# Altium schematic symbol library RPSLib_Memory.SchLib: 14 symbols
Pins are listed as number, name and electrical type; pins without a type are passive.

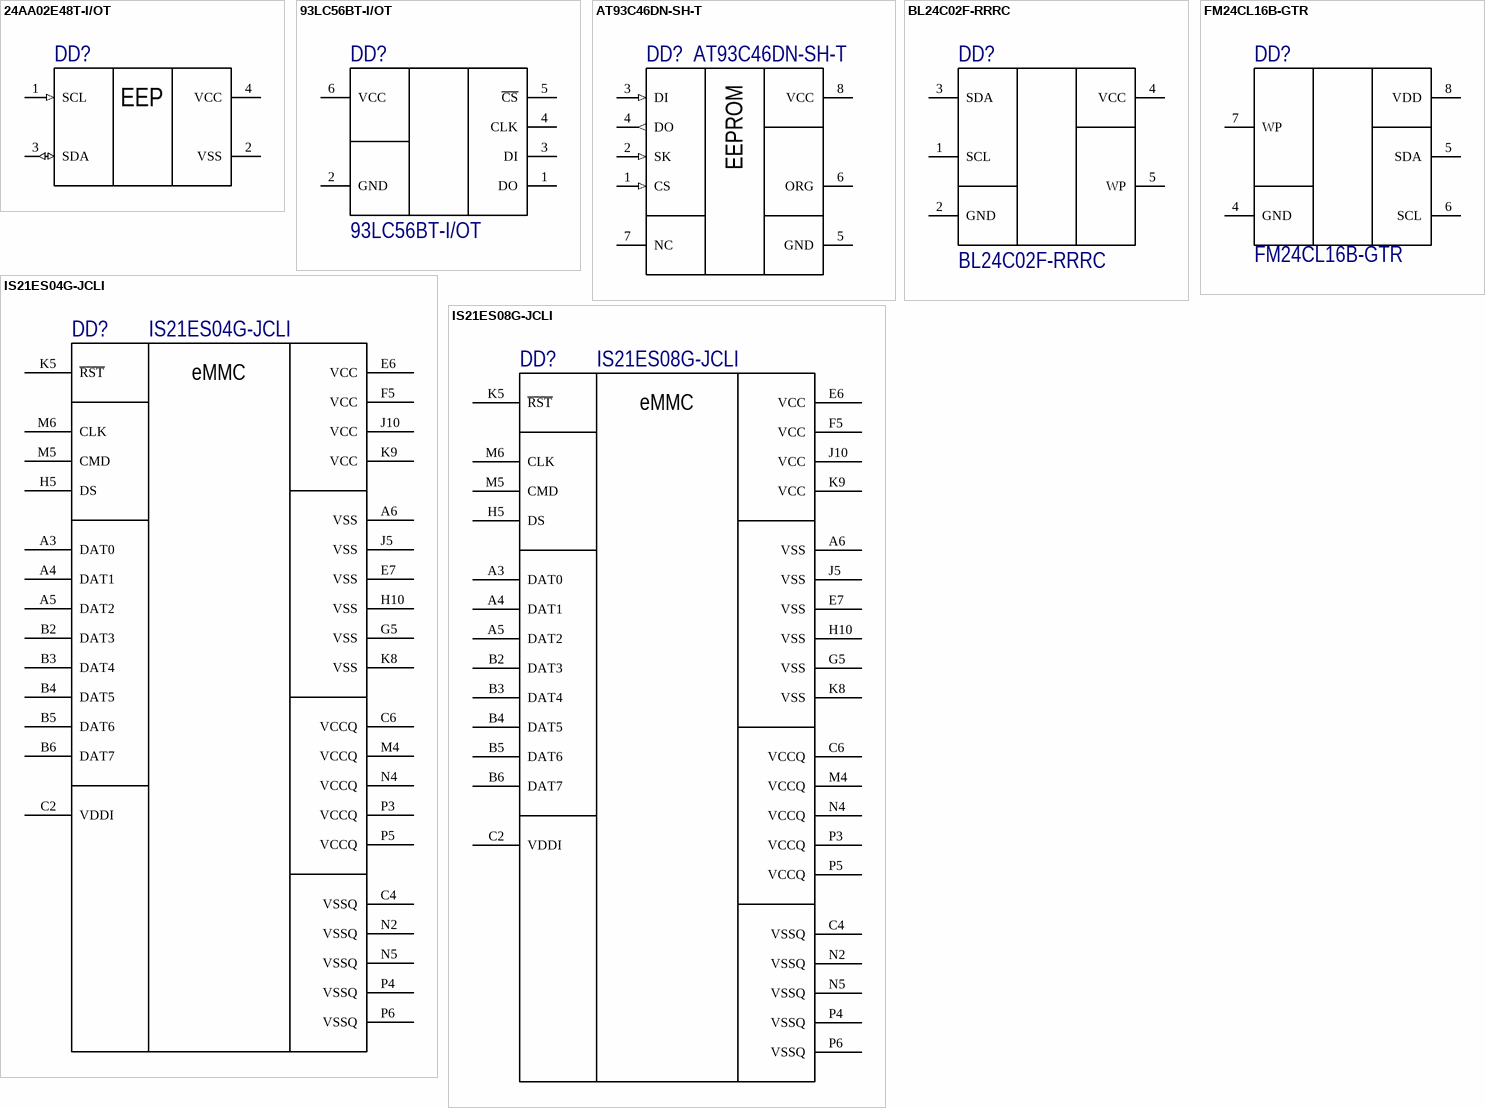
[diagram p0: symbols 24AA02E48T-I/OT to IS21ES08G-JCLI]

## 24AA02E48T-I/OT
designator DD?  (value not drawn)
MICROCHIP   24AA02E48T-I/OT   EEPROM, EUI-48 Node Identity, 2 Kbit, 2 BLK (128K x 8bit), 400 kHz, I2C, SOT-23, 5 Pins; Interface: I2C,Serial; Access Time: 3500ns; Density: 2Kb; Max Frequency: 100kHz; Frequency: 400kHz; Max Supply Voltage: 5.5V; Min Supply Voltage: 1.7V; Nominal Supply Current: 3mA; Operating Supply Voltage: 5V; IIC Address: 1010xxx; Supplier 1: Digi-Key; Manufacturer: Microchip; Manufacturer Part Number: 24AA02E48T-I/OT; RoHS: Yes; Category: EEPROM; Stock 1: 7513; Pricing 1: 1=0,22000, 25=0,21000 (USD); Mount: Surface Mount; Case/Package: SOT-23; Number of Pins: 5; Min Operating Temperature: -40°C; Max Operating Temperature: 85°C; Packaging: Tape and Reel; Package Quantity: 3000; Memory Type: EEPROM; Memory Size: 2Kb; Termination: SMD/SMT; Length: 3.1mm; Height: 1.3mm; Width: 1.8mm; Radiation Hardening: No; REACH SVHC: No SVHC; Lead Free: Lead Free; ComponentLink1URL: https://datasheet.ciiva.com/1154/1688094-1154691.pdf?src-supplier=Element14; ComponentLink1Description: https://datasheet.ciiva.com/1154/1688094-1154691.pdf?src-supplier=Element14; ComponentLink2URL: https://datasheet.ciiva.com/1154/1688094-1154692.pdf?src-supplier=Element14; ComponentLink2Description: https://datasheet.ciiva.com/1154/1688094-1154692.pdf?src-supplier=Element14; ComponentLink3URL: https://datasheet.ciiva.com/46410/22124d-46410949.pdf?src-supplier=Element14; ComponentLink3Description: https://datasheet.ciiva.com/46410/22124d-46410949.pdf?src-supplier=Element14; ComponentLink4URL: https://datasheet.ciiva.com/28656/1725195-28656087.pdf?src-supplier=Element14; ComponentLink4Description: https://datasheet.ciiva.com/28656/1725195-28656087.pdf?src-supplier=Element14; ComponentLink5URL: https://datasheet.ciiva.com/16622/22124d-16622937.pdf?src-supplier=Avnet+Europe; ComponentLink5Description: https://datasheet.ciiva.com/16622/22124d-16622937.pdf?src-supplier=Avnet+Europe; ComponentLink6URL: https://datasheet.ciiva.com/16426/filehandler-aspxddocname-en538826-16426700.pdf?src-supplier=Future+Electronics; ComponentLink6Description: https://datasheet.ciiva.com/16426/filehandler-aspxddocname-en538826-16426700.pdf?src-supplier=Future+Electronics; ComponentLink7URL: https://datasheet.ciiva.com/29294/651228-da-01-en-eeprom-24aa02e48t-i-ot-sot-23-5-mcp-29294263.pdf?src-supplier=Conrad; ComponentLink7Description: https://datasheet.ciiva.com/29294/651228-da-01-en-eeprom-24aa02e48t-i-ot-sot-23-5-mcp-29294263.pdf?src-supplier=Conrad; Supplier Part Number 1: 24AA02E48T-I/OTCT-ND
footprint SOT95P280X145-5N (SOT23, 5-Leads, Body 2.90x2.80mm, Pitch 0.95mm, IPC Medium Density)
pins: 1 SCL (in), 2 VSS (power), 3 SDA (io), 4 VCC (power)
text: EEP

## 93LC56BT-I/OT
designator DD?
IC EEPROM 2K SPI 2MHZ SOT23-6; Manufacturer: Microchip; Density: 2Kb; Interface: Serial; Max Supply Voltage: 5.5V; Min Supply Voltage: 2.5V; Access Time: 250ns; Nominal Supply Current: 2mA; Supplier 1: Digi-Key; Manufacturer Part Number: 93LC56BT-I/OT; Stock 1: 30936; Pricing 1: 1=0.23, 25=0.2164, 100=0.2119 (USD); Mount: Surface Mount; Case/Package: SOT-23; Number of Pins: 6; Contact Plating: Matte,Tin; Min Operating Temperature: -40°C; Max Operating Temperature: 85°C; Max Frequency: 2MHz; Packaging: Tape and Reel; Package Quantity: 3000; Memory Size: 2Kb; Frequency: 2MHz; Memory Type: EEPROM; Length: 3.1mm; Height: 1.3mm; Width: 1.8mm; Radiation Hardening: No; REACH SVHC: No SVHC; Lead Free: Lead Free; ComponentLink1URL: http://ww1.microchip.com/downloads/jp/DeviceDoc/jp013939.pdf; ComponentLink1Description: http://ww1.microchip.com/downloads/jp/DeviceDoc/jp013939.pdf; ComponentLink2URL: http://www.microchip.com/mymicrochip/filehandler.aspx?ddocname=en013939; ComponentLink2Description: http://www.microchip.com/mymicrochip/filehandler.aspx?ddocname=en013939; Supplier Part Number 1: 93LC56BT-I/OTCT-ND
footprint SOT95P280X145-6N (SOT23, 6-Leads, Body 2.92x2.80mm, Pitch 0.95mm, IPC Medium Density)
pins: 1 DO, 2 GND, 3 DI, 4 CLK, 5 ~{CS}, 6 VCC

## AT93C46DN-SH-T
designator DD?
Microwire Serial EEPROM Family, 1.8 to 5.5V, 2 MHz, -40°Cto 125°C, SOIC-8, RoHS; Manufacturer: Microchip; Memory Type: Non-Volatile,EEPROM; Memory Size: 1Kb; Frequency: 2MHz; Supplier 1: Digi-Key; Manufacturer Part Number: AT93C46DN-SH-T; RoHS: Yes; Category: EEPROM; Stock 1: 58097; Pricing 1: 1=0,28000 (USD); Mount: Surface Mount; Case/Package: SOIC; Number of Pins: 8; Min Operating Temperature: -40°C; Max Operating Temperature: 85°C; Packaging: Tape and Reel; RoHS Compliant: Yes; ComponentLink1URL: http://www.farnell.com/datasheets/2047761.pdf?src-supplier=Farnell; ComponentLink1Description: http://www.farnell.com/datasheets/2047761.pdf?src-supplier=Farnell; ComponentLink2URL: http://www.farnell.com/datasheets/2047761.pdf?src-supplier=Newark; ComponentLink2Description: http://www.farnell.com/datasheets/2047761.pdf?src-supplier=Newark; Supplier 2: LCSC; Stock 2: 15617; Pricing 2: 1=0,35090, 10=0,29140, 30=0,26590, 100=0,21070, 500=0,19800, 1000=0,19030 (USD); Supplier Part Number 2: C6499; Supplier Part Number 1: AT93C46DN-SH-TCT-ND
footprint SOIC127P600X175-8N (SOIC, 8-Leads, Body 4.90x3.90mm, Pitch 1.27mm, IPC Medium Density)
pins: 1 CS (in), 2 SK (in), 3 DI (in), 4 DO (out), 5 GND, 6 ORG, 7 NC, 8 VCC

## BL24C02F-RRRC
designator DD?
TSOT23-5L EEPROM 2Kb（256x8） I²C; Manufacturer: Shanghai Belling; Density: 2Kb; Interface: Serial; Max Frequency: 2MHz; Max Supply Voltage: 5.5V; Min Supply Voltage: 2.5V; Access Time: 250ns; Supplier 1: LCSC; Manufacturer Part Number: BL24C02F-RRRC; Stock 1: *; Pricing 1: *; Mount: Surface Mount; Case/Package: SOT-23; Number of Pins: 6; Contact Plating: Matte,Tin; Min Operating Temperature: -40°C; Max Operating Temperature: 85°C; Memory Type: EEPROM; Length: 3.1mm; Height: 1.3mm; Width: 1.8mm; Radiation Hardening: No; REACH SVHC: No SVHC; Lead Free: Lead Free; ComponentLink1URL: http://ww1.microchip.com/downloads/jp/DeviceDoc/jp013939.pdf; ComponentLink1Description: http://ww1.microchip.com/downloads/jp/DeviceDoc/jp013939.pdf; ComponentLink2URL: http://www.microchip.com/mymicrochip/filehandler.aspx?ddocname=en013939; ComponentLink2Description: http://www.microchip.com/mymicrochip/filehandler.aspx?ddocname=en013939; Supplier Part Number 1: C498263
footprint SOT95P280X145-5N (SOT23, 5-Leads, Body 2.90x2.80mm, Pitch 0.95mm, IPC Medium Density)
pins: 1 SCL, 2 GND (power), 3 SDA, 4 VCC (power), 5 WP

## FM24CL16B-GTR
designator DD?
IC FRAM 16K I2C 1MHZ 8SOIC; Manufacturer: Cypress; Max Supply Voltage: 3.65V; Min Supply Voltage: 2.7V; Density: 16Kb; Operating Supply Voltage: 3V; Interface: I2C,Serial,2-Wire; Word Size: 8b; Access Time: 550ns; Nominal Supply Current: 300uA; Memory Type: RAM,FRAM; Supplier 1: Digi-Key; Stock 1: 12640; Pricing 1: 1=1.85, 10=1.687, 25=1.6416, 50=1.6328, 100=1.4596, 250=1.45532, 500=1.43364, 1000=1.37214 (USD); Mount: Surface Mount; Case/Package: SOIC; Number of Pins: 8; Contact Plating: Tin,Matte; Min Operating Temperature: -40°C; Max Operating Temperature: 85°C; Packaging: Tape and Reel; Package Quantity: 2500; Frequency: 1MHz; Memory Size: 16KB; Data Bus Width: 8b; Lead Free: Lead Free; Supplier Part Number 1: 428-3310-1-ND; Manufacturer Part Number: FM24CL16B-GTR
footprint SOIC127P600X175-8N (SOIC, 8-Leads, Body 4.90x3.90mm, Pitch 1.27mm, IPC Medium Density)
pins: 1 NC hidden, 2 NC hidden, 3 NC hidden, 4 GND (power), 5 SDA, 6 SCL, 7 WP, 8 VDD (power)

## IS21ES04G-JCLI
designator DD?
IC FLASH 32G EMMC 153VFBGA; Manufacturer: ISSI; Memory Type: Non-Volatile,FLASH; Memory Size: 32Gb; Frequency: 200MHz; Supplier 1: Digi-Key; Manufacturer Part Number: IS21ES04G-JCLI; RoHS: No; Category: Memory; Stock 1: 1811; Pricing 1: 1=11,12000, 10=10,30100, 25=10,06760, 50=10,01220, 100=8,81450, 250=8,37836, 500=8,29238, 1000=8,01596 (USD); Mount: Surface Mount; Number of Pins: 153; Min Operating Temperature: -40°C; Max Operating Temperature: 85°C; Packaging: Tray; ComponentLink1URL: http://www.farnell.com/datasheets/2622000.pdf?src-supplier=Farnell; ComponentLink1Description: http://www.farnell.com/datasheets/2622000.pdf?src-supplier=Farnell; ComponentLink2URL: http://www.farnell.com/datasheets/2622000.pdf?src-supplier=Newark; ComponentLink2Description: http://www.farnell.com/datasheets/2622000.pdf?src-supplier=Newark; ComponentLink3URL: http://www.issi.com/WW/pdf/IS21-22ES04G.pdf?src-supplier=Digi-Key; ComponentLink3Description: http://www.issi.com/WW/pdf/IS21-22ES04G.pdf?src-supplier=Digi-Key; Supplier Part Number 1: 706-1640-ND
footprint BGA153C50P14X14_1150X1300X100 (BGA, 153-Leads, Body 11,50x13,00mmx1,00mm, Pitch 0,50mm)
pins: A3 DAT0, A4 DAT1, A5 DAT2, A6 VSS, B2 DAT3, B3 DAT4, B4 DAT5, B5 DAT6, B6 DAT7, C2 VDDI, C4 VSSQ, C6 VCCQ, E6 VCC, E7 VSS, F5 VCC, G5 VSS, H5 DS, H10 VSS, J5 VSS, J10 VCC, K5 ~{RST}, K8 VSS, K9 VCC, M4 VCCQ, M5 CMD, M6 CLK, N2 VSSQ, N4 VCCQ, N5 VSSQ, P3 VCCQ, P4 VSSQ, P5 VCCQ, P6 VSSQ
text: eMMC

## IS21ES08G-JCLI
designator DD?
IC FLASH 64G EMMC 153VFBGA; Manufacturer: ISSI; Supplier 1: Digi-Key; Manufacturer Part Number: IS21ES08G-JCLI; RoHS: No; Stock 1: 1073; Pricing 1: 1=16,02000, 10=14,84000, 25=14,63320, 50=14,45380, 100=12,66730, 250=12,11964, 500=12,03882 (USD); ComponentLink1URL: https://media.digikey.com/pdf/Data%20Sheets/ISSI%20PDFs/IS2xE04G,08G,16G,32G,64G_Flyer.pdf?src-supplier=Digi-Key; ComponentLink1Description: https://media.digikey.com/pdf/Data%20Sheets/ISSI%20PDFs/IS2xE04G,08G,16G,32G,64G_Flyer.pdf?src-supplier=Digi-Key; ComponentLink2URL: http://www.farnell.com/datasheets/2622001.pdf?src-supplier=Farnell; ComponentLink2Description: http://www.farnell.com/datasheets/2622001.pdf?src-supplier=Farnell; Supplier Part Number 1: 706-1641-ND
footprint BGA153C50P14X14_1150X1300X100 (BGA, 153-Leads, Body 11,50x13,00mmx1,00mm, Pitch 0,50mm)
pins: A3 DAT0, A4 DAT1, A5 DAT2, A6 VSS, B2 DAT3, B3 DAT4, B4 DAT5, B5 DAT6, B6 DAT7, C2 VDDI, C4 VSSQ, C6 VCCQ, E6 VCC, E7 VSS, F5 VCC, G5 VSS, H5 DS, H10 VSS, J5 VSS, J10 VCC, K5 ~{RST}, K8 VSS, K9 VCC, M4 VCCQ, M5 CMD, M6 CLK, N2 VSSQ, N4 VCCQ, N5 VSSQ, P3 VCCQ, P4 VSSQ, P5 VCCQ, P6 VSSQ
text: eMMC

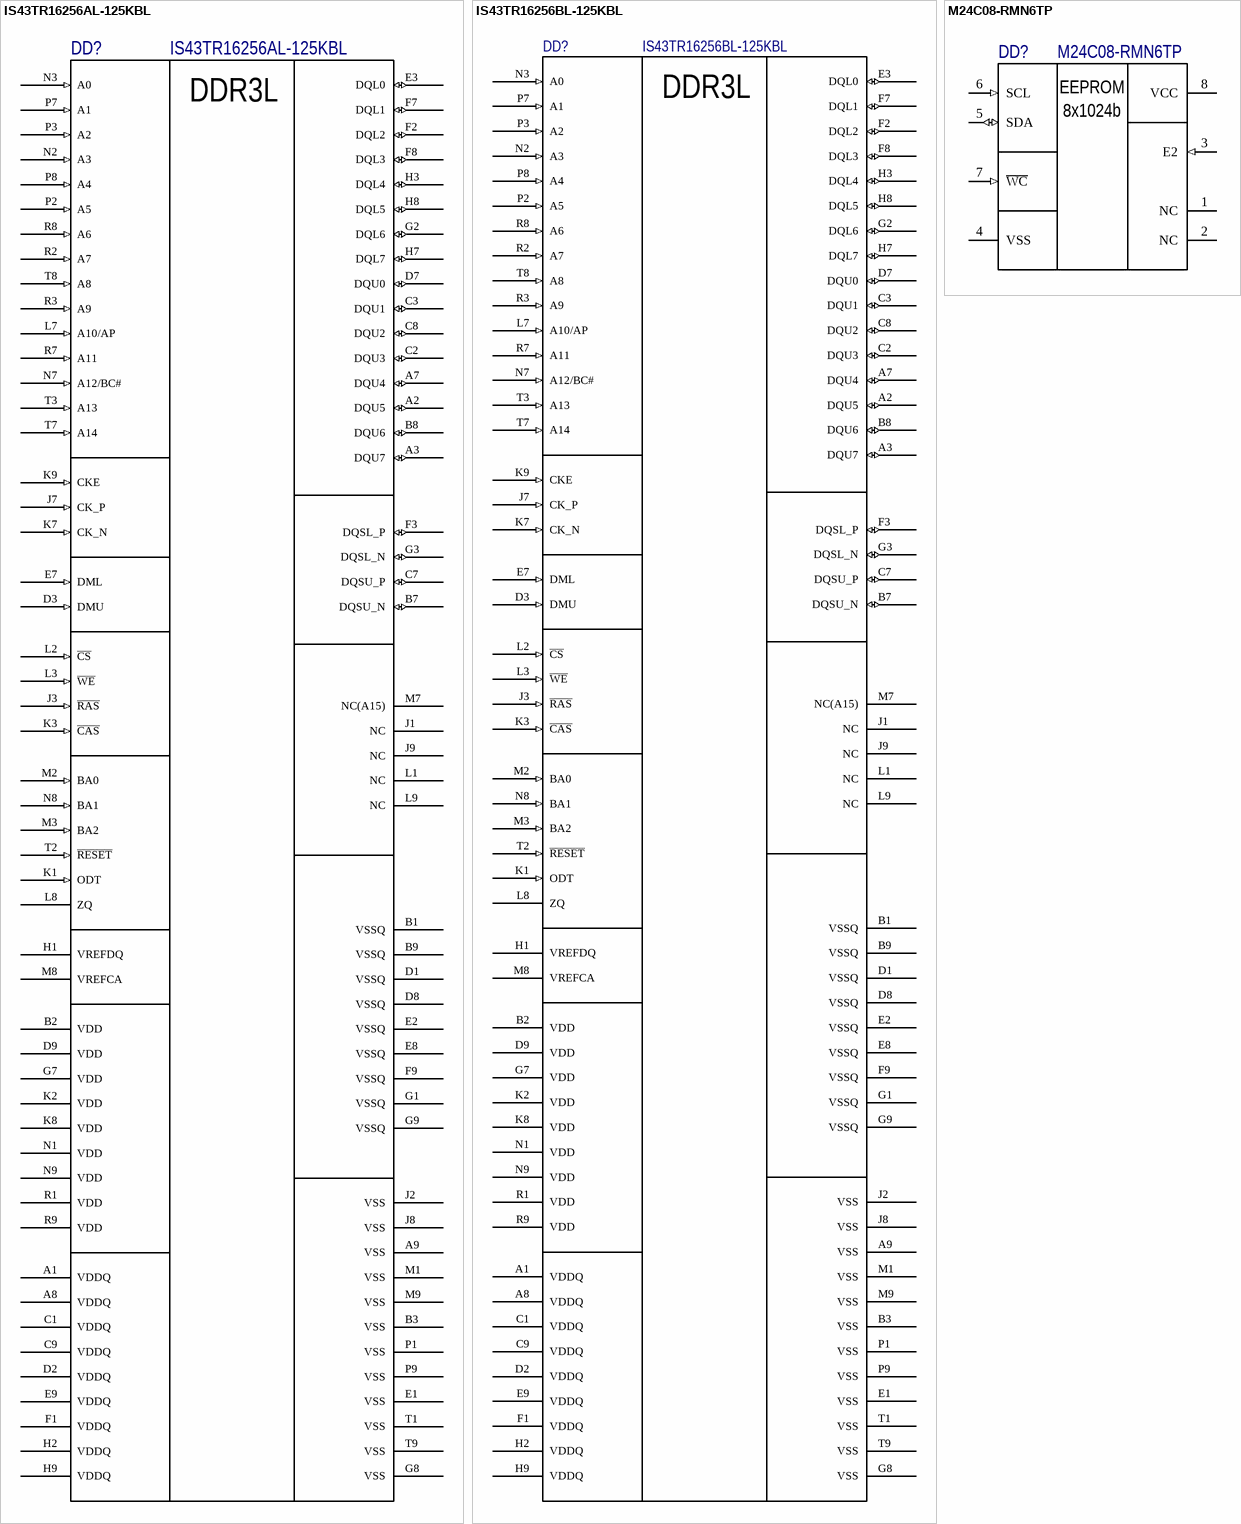
[diagram p1: symbols IS43TR16256AL-125KBL to M24C08-RMN6TP]

## IS43TR16256AL-125KBL
designator DD?
IC DRAM 4G PARALLEL 96TWBGA; Manufacturer: ISSI; Max Frequency: 800MHz; Max Supply Voltage: 1.45V; Min Supply Voltage: 1.283V; Memory Type: RAM,DDR3 SDRAM; Data Bus Width: 16b; Memory Size: 4Gb; Access Time: 255ps; Supplier 1: Digi-Key; Manufacturer Part Number: IS43TR16256AL-125KBL; RoHS: Yes; Category: Memory; Stock 1: 2873; Pricing 1: 1=8,01000, 10=7,37000, 25=7,21640, 50=7,19100, 100=6,45100, 250=6,25544, 500=5,94924, 1000=5,74088 (USD); Case/Package: TFBGA; Number of Pins: 96; Min Operating Temperature: 0°C; Max Operating Temperature: 70°C; Package Quantity: 190; Packaging: Tray; Interface: Parallel; Frequency: 800MHz; ComponentLink1URL: https://datasheet.ciiva.com/18617/43-46tr16256a-85120al-18617927.pdf?src-supplier=Digi-Key; ComponentLink1Description: https://datasheet.ciiva.com/18617/43-46tr16256a-85120al-18617927.pdf?src-supplier=Digi-Key; Supplier Part Number 1: 706-1207-ND
footprint BGA96C80P9X16_900X1300X120 (BGA, 96-Leads, Body 9,00x13,00mmx1,20mm, Pitch 0,80mm)
ibis 43_46tr16256b (Model Description)
pins: A1 VDDQ (power), A2 DQU5 (io), A3 DQU7 (io), A7 DQU4 (io), A8 VDDQ (power), A9 VSS (power), B1 VSSQ (power), B2 VDD (power), B3 VSS (power), B7 DQSU_N (io), B8 DQU6 (io), B9 VSSQ (power), C1 VDDQ (power), C2 DQU3 (io), C3 DQU1 (io), C7 DQSU_P (io), C8 DQU2 (io), C9 VDDQ (power), D1 VSSQ (power), D2 VDDQ (power), D3 DMU (in), D7 DQU0 (io), D8 VSSQ (power), D9 VDD (power), E1 VSS (power), E2 VSSQ (power), E3 DQL0 (io), E7 DML (in), E8 VSSQ (power), E9 VDDQ (power), F1 VDDQ (power), F2 DQL2 (io), F3 DQSL_P (io), F7 DQL1 (io), F8 DQL3 (io), F9 VSSQ (power), G1 VSSQ (power), G2 DQL6 (io), G3 DQSL_N (io), G7 VDD (power), G8 VSS (power), G9 VSSQ (power), H1 VREFDQ (power), H2 VDDQ (power), H3 DQL4 (io), H7 DQL7 (io), H8 DQL5 (io), H9 VDDQ (power), J1 NC, J2 VSS (power), J3 ~{RAS} (in), J7 CK_P (in), J8 VSS (power), J9 NC, K1 ODT (in), K2 VDD (power), K3 ~{CAS} (in), K7 CK_N (in), K8 VDD (power), K9 CKE (in), L1 NC, L2 ~{CS} (in), L3 ~{WE} (in), L7 A10/AP (in), L8 ZQ (power), L9 NC, M1 VSS (power), M2 BA0 (in), M3 BA2 (in), M7 NC(A15), M8 VREFCA (power), M9 VSS (power), N1 VDD (power), N2 A3 (in), N3 A0 (in), N7 A12/BC# (in), N8 BA1 (in), N9 VDD (power), P1 VSS (power), P2 A5 (in), P3 A2 (in), P7 A1 (in), P8 A4 (in), P9 VSS (power), R1 VDD (power), R2 A7 (in), R3 A9 (in), R7 A11 (in), R8 A6 (in), R9 VDD (power), T1 VSS (power), T2 ~{RESET} (in), T3 A13 (in), T7 A14 (in), T8 A8 (in), T9 VSS (power)
text: DDR3L

## IS43TR16256BL-125KBL
designator DD?
IC DRAM 4G PARALLEL 96TWBGA; Manufacturer: ISSI; Supplier 1: Digi-Key; Manufacturer Part Number: IS43TR16256BL-125KBL; RoHS: No; Category: Memory; Stock 1: 447; Pricing 1: 1=7,24000, 10=6,66000, 25=6,52160, 40=6,49925, 190=5,83163, 380=5,65534, 570=5,37782, 950=5,19032, 4940=4,66904 (USD); Supplier Part Number 1: 706-1731-ND
footprint BGA96C80P9X16_900X1300X120 (BGA, 96-Leads, Body 9,00x13,00mmx1,20mm, Pitch 0,80mm)
pins: A1 VDDQ (power), A2 DQU5 (io), A3 DQU7 (io), A7 DQU4 (io), A8 VDDQ (power), A9 VSS (power), B1 VSSQ (power), B2 VDD (power), B3 VSS (power), B7 DQSU_N (io), B8 DQU6 (io), B9 VSSQ (power), C1 VDDQ (power), C2 DQU3 (io), C3 DQU1 (io), C7 DQSU_P (io), C8 DQU2 (io), C9 VDDQ (power), D1 VSSQ (power), D2 VDDQ (power), D3 DMU (in), D7 DQU0 (io), D8 VSSQ (power), D9 VDD (power), E1 VSS (power), E2 VSSQ (power), E3 DQL0 (io), E7 DML (in), E8 VSSQ (power), E9 VDDQ (power), F1 VDDQ (power), F2 DQL2 (io), F3 DQSL_P (io), F7 DQL1 (io), F8 DQL3 (io), F9 VSSQ (power), G1 VSSQ (power), G2 DQL6 (io), G3 DQSL_N (io), G7 VDD (power), G8 VSS (power), G9 VSSQ (power), H1 VREFDQ (power), H2 VDDQ (power), H3 DQL4 (io), H7 DQL7 (io), H8 DQL5 (io), H9 VDDQ (power), J1 NC, J2 VSS (power), J3 ~{RAS} (in), J7 CK_P (in), J8 VSS (power), J9 NC, K1 ODT (in), K2 VDD (power), K3 ~{CAS} (in), K7 CK_N (in), K8 VDD (power), K9 CKE (in), L1 NC, L2 ~{CS} (in), L3 ~{WE} (in), L7 A10/AP (in), L8 ZQ (power), L9 NC, M1 VSS (power), M2 BA0 (in), M3 BA2 (in), M7 NC(A15), M8 VREFCA (power), M9 VSS (power), N1 VDD (power), N2 A3 (in), N3 A0 (in), N7 A12/BC# (in), N8 BA1 (in), N9 VDD (power), P1 VSS (power), P2 A5 (in), P3 A2 (in), P7 A1 (in), P8 A4 (in), P9 VSS (power), R1 VDD (power), R2 A7 (in), R3 A9 (in), R7 A11 (in), R8 A6 (in), R9 VDD (power), T1 VSS (power), T2 ~{RESET} (in), T3 A13 (in), T7 A14 (in), T8 A8 (in), T9 VSS (power)
text: DDR3L

## M24C08-RMN6TP
designator DD?
IC EEPROM 8KBIT 400KHZ 8SO; Manufacturer: STMicroelectronics; Interface: I2C,Serial,2-Wire; Access Time: 900ns; Density: 8Kb; Max Supply Voltage: 5.5V; Min Supply Voltage: 1.8V; Nominal Supply Current: 800uA; Operating Supply Voltage: 5V; Organization: 1KX8; Write Protection: YES; Supplier 1: Digi-Key; Manufacturer Part Number: M24C08-RMN6TP; RoHS: Yes; Category: EEPROM; Stock 1: 26945; Pricing 1: 1=0,20000, 10=0,19900, 25=0,18480, 50=0,18380, 100=0,16320, 250=0,16112, 500=0,15868, 1000=0,15443 (USD); Mount: Surface Mount; Case/Package: SOIC; Number of Pins: 8; Contact Plating: Gold; Min Operating Temperature: -40°C; Max Operating Temperature: 85°C; Max Frequency: 400kHz; Frequency: 400kHz; Packaging: Tape and Reel; Package Quantity: 1; Memory Type: EEPROM; Memory Size: 8Kb; Series: -; Access Time-Max: 900ns; Programming Voltage: 5.5V; Supply Current: 800uA; Radiation Hardening: No; Lead Free: Lead Free; RoHS Compliant: Yes; ComponentLink1URL: https://datasheet.ciiva.com/1904/dm00070057-1904905.pdf?src-supplier=Digi-Key; ComponentLink1Description: https://datasheet.ciiva.com/1904/dm00070057-1904905.pdf?src-supplier=Digi-Key; ComponentLink2URL: https://datasheet.ciiva.com/1904/dm00070057-1904904.pdf?src-supplier=Digi-Key; ComponentLink2Description: https://datasheet.ciiva.com/1904/dm00070057-1904904.pdf?src-supplier=Digi-Key; ComponentLink3URL: https://datasheet.ciiva.com/1904/dm00070057-1904906.pdf?src-supplier=Digi-Key; ComponentLink3Description: https://datasheet.ciiva.com/1904/dm00070057-1904906.pdf?src-supplier=Digi-Key; ComponentLink4URL: https://datasheet.ciiva.com/15223/getdatasheetpartid-129954-15223581.pdf?src-supplier=Verical; ComponentLink4Description: https://datasheet.ciiva.com/15223/getdatasheetpartid-129954-15223581.pdf?src-supplier=Verical; Supplier 2: LCSC; Supplier Part Number 1: 497-8637-1-ND; Supplier Part Number 2: C141777
footprint SOIC127P600X175-8N (SOIC, 8-Leads, Body 4.90x3.90mm, Pitch 1.27mm, IPC Medium Density)
pins: 1 NC, 2 NC, 3 E2 (in), 4 VSS (power), 5 SDA (io), 6 SCL (in), 7 ~{WC} (in), 8 VCC (power)
text: 8x1024b

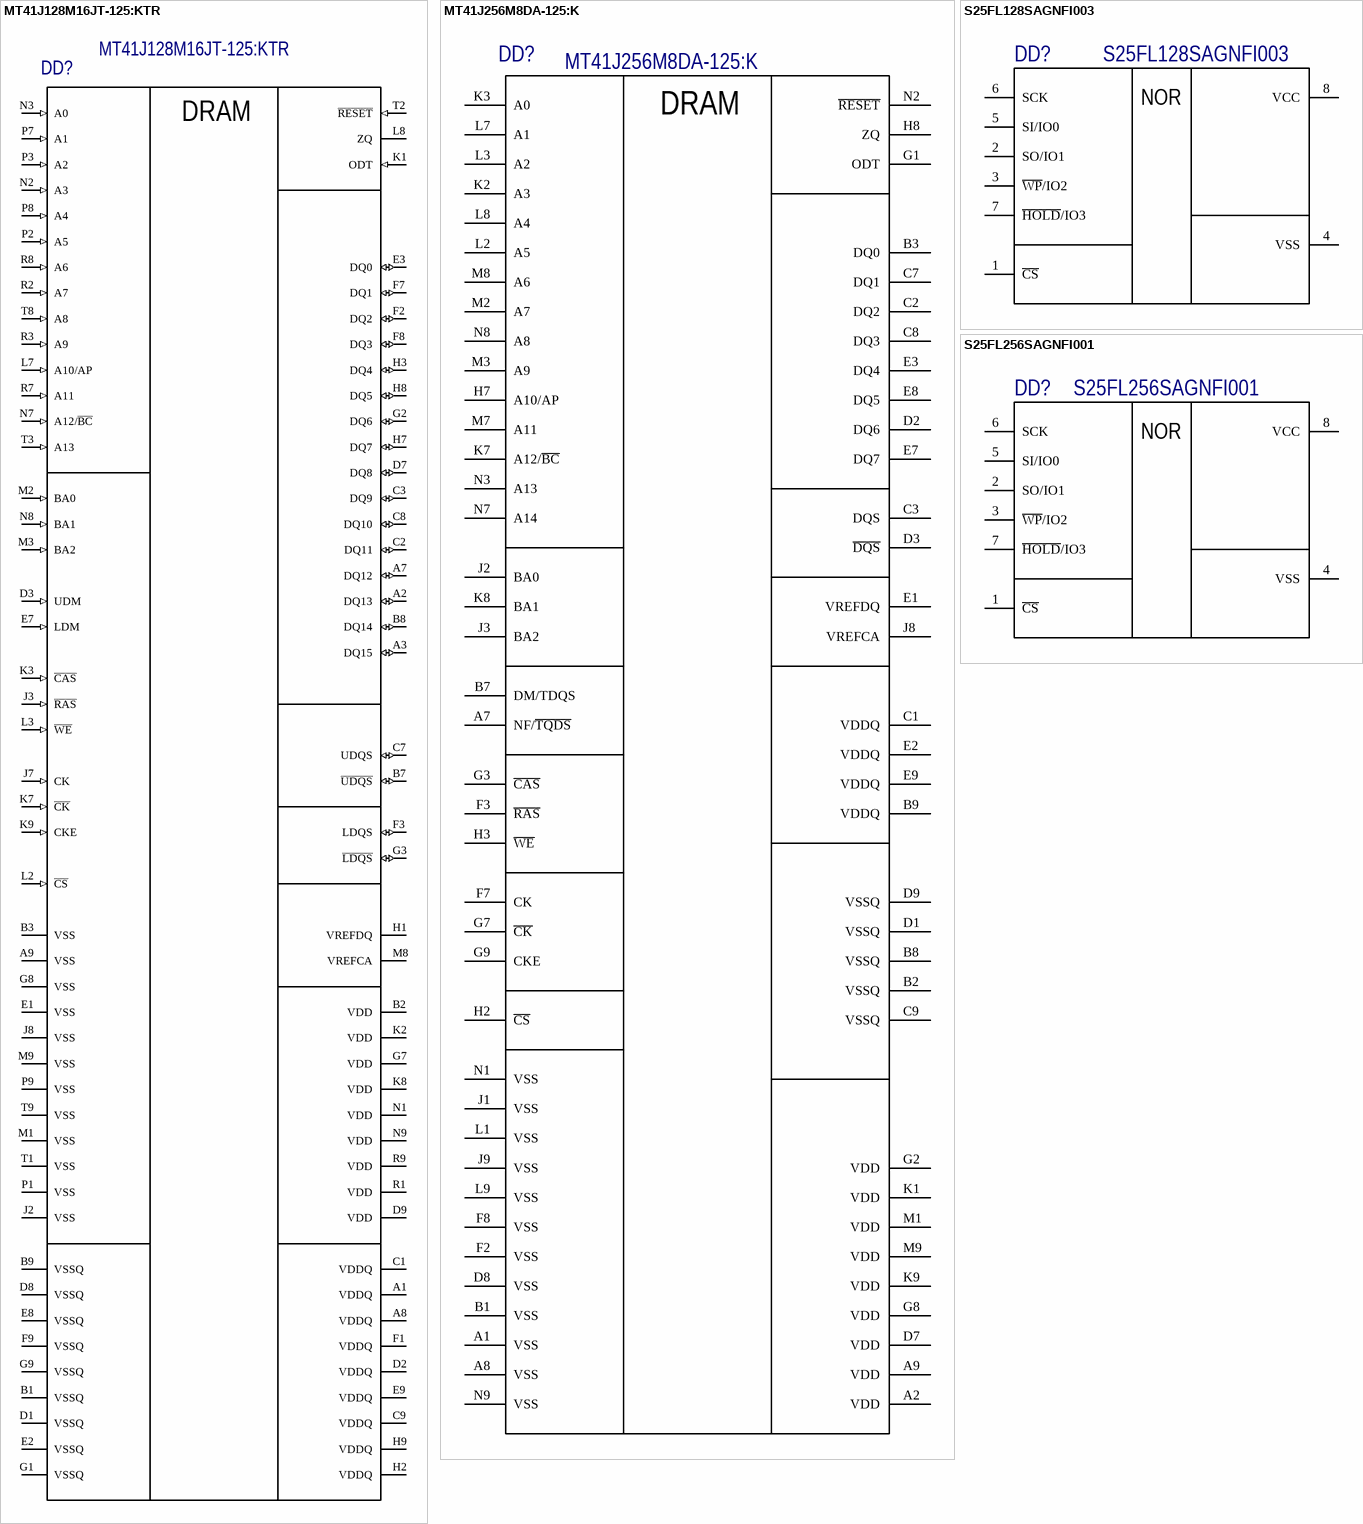
[diagram p2: symbols MT41J128M16JT-125:KTR to S25FL256SAGNFI001]

## MT41J128M16JT-125:KTR
designator DD?
IC DRAM 2G PARALLEL 96FBGA; Manufacturer: Micron Technology; Memory Type: RAM,DDR3 SDRAM,Volatile; Frequency: 800MHz; Address Bus Width: 17b; Density: 2Gb; Max Frequency: 1.6GHz; Operating Supply Voltage: 1.5V; Access Time: 13.75ns; Supplier 1: Digi-Key; Manufacturer Part Number: MT41J128M16JT-125:KTR; Stock 1: 0; Mount: Surface Mount; Case/Package: FBGA; Number of Pins: 96; Min Operating Temperature: 0°C; Max Operating Temperature: 95°C; Packaging: Tape and Reel; Interface: Parallel; Package Quantity: 2000; Memory Size: 2Gb; ComponentLink1URL: http://www.micron.com/~/media/Documents/Products/Data%20Sheet/DRAM/DDR3/2Gb_DDR3_SDRAM.pdf?src-supplier=Digi-Key; ComponentLink1Description: http://www.micron.com/~/media/Documents/Products/Data%20Sheet/DRAM/DDR3/2Gb_DDR3_SDRAM.pdf?src-supplier=Digi-Key; Supplier Part Number 1: 557-1611-1-ND
footprint BGA96C80P9X16_800X1400X110 (BGA, 96-Leads, Body 8,00x14,00mmx1,10mm, Pitch 0,80mm)
pins: A1 VDDQ (power), A2 DQ13 (io), A3 DQ15 (io), A7 DQ12 (io), A8 VDDQ (power), A9 VSS (power), B1 VSSQ (power), B2 VDD (power), B3 VSS (power), B7 ~{UDQS} (io), B8 DQ14 (io), B9 VSSQ (power), C1 VDDQ (power), C2 DQ11 (io), C3 DQ9 (io), C7 UDQS (io), C8 DQ10 (io), C9 VDDQ (power), D1 VSSQ (power), D2 VDDQ (power), D3 UDM (in), D7 DQ8 (io), D8 VSSQ (power), D9 VDD (power), E1 VSS (power), E2 VSSQ (power), E3 DQ0 (io), E7 LDM (in), E8 VSSQ (power), E9 VDDQ (power), F1 VDDQ (power), F2 DQ2 (io), F3 LDQS (io), F7 DQ1 (io), F8 DQ3 (io), F9 VSSQ (power), G1 VSSQ (power), G2 DQ6 (io), G3 ~{LDQS} (io), G7 VDD (power), G8 VSS (power), G9 VSSQ (power), H1 VREFDQ (power), H2 VDDQ (power), H3 DQ4 (io), H7 DQ7 (io), H8 DQ5 (io), H9 VDDQ (power), J2 VSS (power), J3 ~{RAS} (in), J7 CK (in), J8 VSS (power), K1 ODT (in), K2 VDD (power), K3 ~{CAS} (in), K7 ~{CK} (in), K8 VDD (power), K9 CKE (in), L2 ~{CS} (in), L3 ~{WE} (in), L7 A10/AP (in), L8 ZQ, M1 VSS (power), M2 BA0 (in), M3 BA2 (in), M8 VREFCA (power), M9 VSS (power), N1 VDD (power), N2 A3 (in), N3 A0 (in), N7 A12/~{BC} (in), N8 BA1 (in), N9 VDD (power), P1 VSS (power), P2 A5 (in), P3 A2 (in), P7 A1 (in), P8 A4 (in), P9 VSS (power), R1 VDD (power), R2 A7 (in), R3 A9 (in), R7 A11 (in), R8 A6 (in), R9 VDD (power), T1 VSS (power), T2 ~{RESET} (in), T3 A13 (in), T8 A8 (in), T9 VSS (power)
text: DRAM

## MT41J256M8DA-125:K
designator DD?
DRAM Chip DDR3 SDRAM 2G-Bit 256Mx8 1.5V 78-Pin FBGA; Manufacturer: Micron Technology; Density: 2Gb; Address Bus Width: 18b; Interface: Parallel; Memory Type: RAM,DDR3 SDRAM; Frequency: 800MHz; Max Frequency: 1.6GHz; Max Supply Voltage: 1.575V; Min Supply Voltage: 1.425V; Data Bus Width: 8b; Nominal Supply Current: 103mA; Supplier 1: Mouser; Stock 1: 1392; Pricing 1: 1=4.96, 10=4.53, 25=4.44, 50=4.41, 100=3.96, 250=3.94, 500=3.7, 1000=3.54, 2000=3.43, 10000=3.43 (USD); Mount: Surface Mount; Case/Package: FBGA; Number of Pins: 78; Contact Plating: Copper,Tin,Silver; Min Operating Temperature: 0°C; Max Operating Temperature: 95°C; Packaging: Tray; Operating Supply Voltage: 1.5V; Package Quantity: 1000; Radiation Hardening: No; Lead Free: Lead Free; ComponentLink1URL: https://www.verical.com/server-webapp/html/getDatasheet?partID=551908&src-supplier=Verical; ComponentLink1Description: https://www.verical.com/server-webapp/html/getDatasheet?partID=551908&src-supplier=Verical; ComponentLink2URL: http://www.micron.com/~/media/Documents/Products/Data%20Sheet/DRAM/DDR3/2Gb_DDR3_SDRAM.pdf?src-supplier=Digi-Key; ComponentLink2Description: http://www.micron.com/~/media/Documents/Products/Data%20Sheet/DRAM/DDR3/2Gb_DDR3_SDRAM.pdf?src-supplier=Digi-Key; Description 1: DRAM Chip DDR3 SDRAM 2G-Bit 256Mx8 1.5V 78-Pin FBGA; Supplier Part Number 1: 340-140586-TRAY; Manufacturer Part Number: MT41J256M8DA-125:K
footprint BGA81C80P9X13_800X1050X120 (BGA, 81-Leads, Body 8,00x10,50mmx1,20mm, Pitch 0,80mm)
pins: A1 VSS, A2 VDD, A7 NF/~{TQDS}, A8 VSS, A9 VDD, B1 VSS, B2 VSSQ, B3 DQ0, B7 DM/TDQS, B8 VSSQ, B9 VDDQ, C1 VDDQ, C2 DQ2, C3 DQS, C7 DQ1, C8 DQ3, C9 VSSQ, D1 VSSQ, D2 DQ6, D3 ~{DQS}, D7 VDD, D8 VSS, D9 VSSQ, E1 VREFDQ, E2 VDDQ, E3 DQ4, E7 DQ7, E8 DQ5, E9 VDDQ, F2 VSS, F3 ~{RAS}, F7 CK, F8 VSS, G1 ODT, G2 VDD, G3 ~{CAS}, G7 ~{CK}, G8 VDD, G9 CKE, H2 ~{CS}, H3 ~{WE}, H7 A10/AP, H8 ZQ, J1 VSS, J2 BA0, J3 BA2, J8 VREFCA, J9 VSS, K1 VDD, K2 A3, K3 A0, K7 A12/~{BC}, K8 BA1, K9 VDD, L1 VSS, L2 A5, L3 A2, L7 A1, L8 A4, L9 VSS, M1 VDD, M2 A7, M3 A9, M7 A11, M8 A6, M9 VDD, N1 VSS, N2 ~{RESET}, N3 A13, N7 A14, N8 A8, N9 VSS
text: DRAM

## S25FL128SAGNFI003
designator DD?
128-MBIT CMOS 3.0 VOLT 65NM FLASH MEMORY WITH 13; Manufacturer: Spansion; Density: 128Mb; Memory Type: NOR; Access Time: 8ns; Interface: SPI,Serial; Address Bus Width: 1b; Max Supply Voltage: 3.6V; Min Supply Voltage: 2.7V; Frequency: 133MHz; Nominal Supply Current: 75mA; Data Bus Width: 8b; Sync/Async: Synchronous; Supplier 1: Digi-Key; Manufacturer Part Number: S25FL128SAGNFI003; RoHS: Yes; Category: Memory; Stock 1: 8341; Pricing 1: 1=3,27000, 10=2,96900, 25=2,90480, 50=2,88880, 100=2,59080, 250=2,58116, 500=2,48608, 1000=2,36363 (USD); Number of Pins: 8; Min Operating Temperature: -40°C; Max Operating Temperature: 85°C; Packaging: Tape and Reel; Word Size: 1b; Package Quantity: 2500; Max Frequency: 133MHz; Memory Size: 128Mb; ComponentLink1URL: http://components.arrow.com/part/dataview/53548549S567604N3310?src-supplier=Arrow; ComponentLink1Description: http://components.arrow.com/part/dataview/53548549S567604N3310?src-supplier=Arrow; ComponentLink2URL: https://media.digikey.com/pdf/Data%20Sheets/Cypress%20PDFs/S25FL128_256S_Supplement.PDF?src-supplier=Digi-Key; ComponentLink2Description: https://media.digikey.com/pdf/Data%20Sheets/Cypress%20PDFs/S25FL128_256S_Supplement.PDF?src-supplier=Digi-Key; ComponentLink3URL: http://components.arrow.com/part/dataview/0323_06978422?src-supplier=Arrow+Europe; ComponentLink3Description: http://components.arrow.com/part/dataview/0323_06978422?src-supplier=Arrow+Europe; Supplier Part Number 1: 428-4003-1-ND
footprint SON127P800X80_HS-9N (SON, 8-Leads, Body 6,00x8,00mm, Pitch 1,27mm, Thermal Pad 4,80x4,65mm, IPC Medium Density)
pins: 1 ~{CS}, 2 SO/IO1, 3 ~{WP}/IO2, 4 VSS, 5 SI/IO0, 6 SCK, 7 ~{HOLD}/IO3, 8 VCC

## S25FL256SAGNFI001
designator DD?
CYPRESS SEMICONDUCTOR - S25FL256SAGNFI001 - Flash Memory, Serial NOR, 256 Mbit, 32M x 8bit, SPI, WSON, 8 Pins; Memory Type: FLASH,NOR; Frequency: 133MHz; Interface: SPI,Serial; Max Supply Voltage: 3.6V; Min Supply Voltage: 2.7V; Address Bus Width: 1b; Density: 256Mb; Access Time: 8ns; Supplier 1: Digi-Key; Manufacturer: Cypress; Manufacturer Part Number: S25FL256SAGNFI001; RoHS: Yes; Category: Memory; Stock 1: 26504; Pricing 1: 1=3,06000, 10=2,77600, 25=2,71600, 50=2,70100, 100=2,42230, 250=2,41328, 500=2,32440, 1000=2,20991 (USD); Mount: Surface Mount; Number of Pins: 8; Contact Plating: Tin,Matte; Min Operating Temperature: -40°C; Max Operating Temperature: 85°C; Packaging: Rail/Tube; Lead Free: Lead Free; ComponentLink1URL: http://www.farnell.com/datasheets/1911306.pdf?src-supplier=Farnell; ComponentLink1Description: http://www.farnell.com/datasheets/1911306.pdf?src-supplier=Farnell; ComponentLink2URL: http://www.farnell.com/datasheets/2277190.pdf?src-supplier=Farnell; ComponentLink2Description: http://www.farnell.com/datasheets/2277190.pdf?src-supplier=Farnell; ComponentLink3URL: http://www.farnell.com/datasheets/2277190.pdf?src-supplier=Newark; ComponentLink3Description: http://www.farnell.com/datasheets/2277190.pdf?src-supplier=Newark; ComponentLink4URL: http://www.cypress.com/file/177966/download?src-supplier=Digi-Key; ComponentLink4Description: http://www.cypress.com/file/177966/download?src-supplier=Digi-Key; ComponentLink5URL: http://www.spansion.com/Support/Datasheets/S25FL128S_256S_00.pdf?src-supplier=Avnet+Asia; ComponentLink5Description: http://www.spansion.com/Support/Datasheets/S25FL128S_256S_00.pdf?src-supplier=Avnet+Asia; Supplier Part Number 1: 1274-1005-ND
footprint SON127P800X80_HS-9N (SON, 8-Leads, Body 6,00x8,00mm, Pitch 1,27mm, Thermal Pad 4,80x4,65mm, IPC Medium Density)
pins: 1 ~{CS}, 2 SO/IO1, 3 ~{WP}/IO2, 4 VSS, 5 SI/IO0, 6 SCK, 7 ~{HOLD}/IO3, 8 VCC
text: NOR